# Altium schematic symbol library ICs-MCU.SchLib: 10 symbols
Pins are listed as number, name and electrical type; pins without a type are passive.

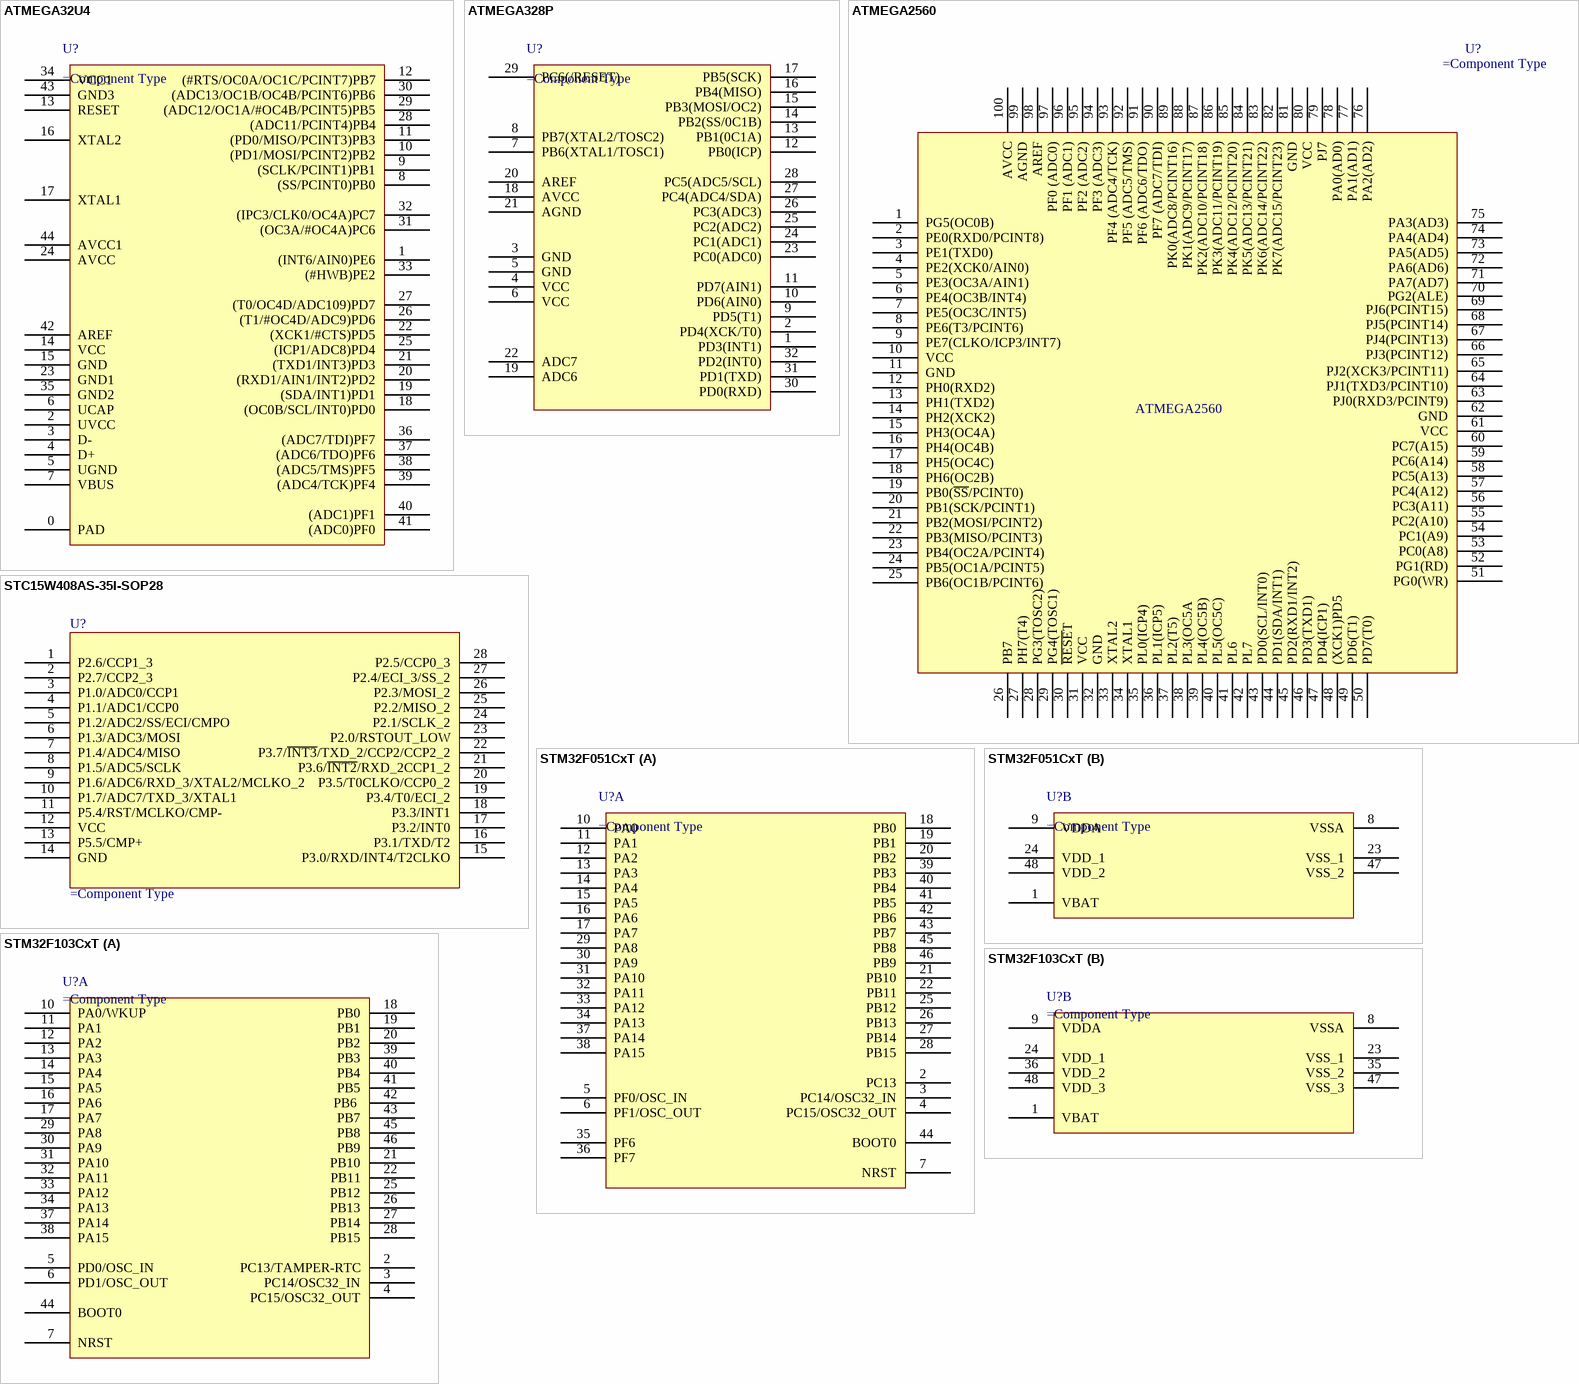
[diagram p0: symbols ATMEGA32U4 to STM32F103CxT]

## ATMEGA32U4
designator U?
footprint QFN-44_7x7x05P
pins: 0 PAD, 1 (INT6/AIN0)PE6, 2 UVCC, 3 D-, 4 D+, 5 UGND, 6 UCAP, 7 VBUS, 8 (SS/PCINT0)PB0, 9 (SCLK/PCINT1)PB1, 10 (PD1/MOSI/PCINT2)PB2, 11 (PD0/MISO/PCINT3)PB3, 12 (#RTS/OC0A/OC1C/PCINT7)PB7, 13 RESET, 14 VCC, 15 GND, 16 XTAL2, 17 XTAL1, 18 (OC0B/SCL/INT0)PD0, 19 (SDA/INT1)PD1, 20 (RXD1/AIN1/INT2)PD2, 21 (TXD1/INT3)PD3, 22 (XCK1/#CTS)PD5, 23 GND1, 24 AVCC, 25 (ICP1/ADC8)PD4, 26 (T1/#OC4D/ADC9)PD6, 27 (T0/OC4D/ADC109)PD7, 28 (ADC11/PCINT4)PB4, 29 (ADC12/OC1A/#OC4B/PCINT5)PB5, 30 (ADC13/OC1B/OC4B/PCINT6)PB6, 31 (OC3A/#OC4A)PC6, 32 (IPC3/CLK0/OC4A)PC7, 33 (#HWB)PE2, 34 VCC1, 35 GND2, 36 (ADC7/TDI)PF7, 37 (ADC6/TDO)PF6, 38 (ADC5/TMS)PF5, 39 (ADC4/TCK)PF4, 40 (ADC1)PF1, 41 (ADC0)PF0, 42 AREF, 43 GND3, 44 AVCC1

## ATMEGA328P
designator U?
footprint TQFP-32_7x7x08P
pins: 1 PD3(INT1), 2 PD4(XCK/T0), 3 GND, 4 VCC, 5 GND, 6 VCC, 7 PB6(XTAL1/TOSC1), 8 PB7(XTAL2/TOSC2), 9 PD5(T1), 10 PD6(AIN0), 11 PD7(AIN1), 12 PB0(ICP), 13 PB1(0C1A), 14 PB2(SS/0C1B), 15 PB3(MOSI/OC2), 16 PB4(MISO), 17 PB5(SCK), 18 AVCC, 19 ADC6, 20 AREF, 21 AGND, 22 ADC7, 23 PC0(ADC0), 24 PC1(ADC1), 25 PC2(ADC2), 26 PC3(ADC3), 27 PC4(ADC4/SDA), 28 PC5(ADC5/SCL), 29 PC6(/RESET), 30 PD0(RXD), 31 PD1(TXD), 32 PD2(INT0)

## ATMEGA2560
designator U?
pins: 1 PG5(OC0B), 2 PE0(RXD0/PCINT8), 3 PE1(TXD0), 4 PE2(XCK0/AIN0), 5 PE3(OC3A/AIN1), 6 PE4(OC3B/INT4), 7 PE5(OC3C/INT5), 8 PE6(T3/PCINT6), 9 PE7(CLKO/ICP3/INT7), 10 VCC (power), 11 GND (power), 12 PH0(RXD2), 13 PH1(TXD2), 14 PH2(XCK2), 15 PH3(OC4A), 16 PH4(OC4B), 17 PH5(OC4C), 18 PH6(OC2B), 19 PB0(~{SS}/PCINT0), 20 PB1(SCK/PCINT1), 21 PB2(MOSI/PCINT2), 22 PB3(MISO/PCINT3), 23 PB4(OC2A/PCINT4), 24 PB5(OC1A/PCINT5), 25 PB6(OC1B/PCINT6), 26 PB7, 27 PH7(T4), 28 PG3(TOSC2), 29 PG4(TOSC1), 30 ~{RESE}T, 31 VCC (power), 32 GND (power), 33 XTAL2, 34 XTAL1, 35 PL0(ICP4), 36 PL1(ICP5), 37 PL2(T5), 38 PL3(OC5A, 39 PL4(OC5B), 40 PL5(OC5C), 41 PL6, 42 PL7, 43 PD0(SCL/INT0), 44 PD1(SDA/INT1), 45 PD2(RXD1/INT2), 46 PD3(TXD1), 47 PD4(ICP1), 48 (XCK1)PD5, 49 PD6(T1), 50 PD7(T0), 51 PG0(WR), 52 PG1(RD), 53 PC0(A8), 54 PC1(A9), 55 PC2(A10), 56 PC3(A11), 57 PC4(A12), 58 PC5(A13), 59 PC6(A14), 60 PC7(A15), 61 VCC (power), 62 GND (power), 63 PJ0(RXD3/PCINT9), 64 PJ1(TXD3/PCINT10), 65 PJ2(XCK3/PCINT11), 66 PJ3(PCINT12), 67 PJ4(PCINT13), 68 PJ5(PCINT14), 69 PJ6(PCINT15), 70 PG2(ALE), 71 PA7(AD7), 72 PA6(AD6), 73 PA5(AD5), 74 PA4(AD4), 75 PA3(AD3), 76 PA2(AD2), 77 PA1(AD1), 78 PA0(AD0), 79 PJ7, 80 VCC (power), 81 GND (power), 82 PK7(ADC15/PCINT23), 83 PK6(ADC14/PCINT22), 84 PK5(ADC13/PCINT21), 85 PK4(ADC12/PCINT20), 86 PK3(ADC11/PCINT19), 87 PK2(ADC10/PCINT18), 88 PK1(ADC9/PCINT17), 89 PK0(ADC8/PCINT16), 90 PF7 (ADC7/TDI), 91 PF6 (ADC6/TDO), 92 PF5 (ADC5/TMS), 93 PF4 (ADC4/TCK), 94 PF3 (ADC3), 95 PF2 (ADC2), 96 PF1 (ADC1), 97 PF0 (ADC0), 98 AREF (power), 99 AGND (power), 100 AVCC (power)

## STC15W408AS-35I-SOP28
designator U?
footprint SOP-28_300mil
pins: 1 P2.6/CCP1_3, 2 P2.7/CCP2_3, 3 P1.0/ADC0/CCP1, 4 P1.1/ADC1/CCP0, 5 P1.2/ADC2/SS/ECI/CMPO, 6 P1.3/ADC3/MOSI, 7 P1.4/ADC4/MISO, 8 P1.5/ADC5/SCLK, 9 P1.6/ADC6/RXD_3/XTAL2/MCLKO_2, 10 P1.7/ADC7/TXD_3/XTAL1, 11 P5.4/RST/MCLKO/CMP-, 12 VCC (power), 13 P5.5/CMP+, 14 GND (power), 15 P3.0/RXD/INT4/T2CLKO, 16 P3.1/TXD/T2, 17 P3.2/INT0, 18 P3.3/INT1, 19 P3.4/T0/ECI_2, 20 P3.5/T0CLKO/CCP0_2, 21 P3.6/~{INT2}/RXD_2CCP1_2, 22 P3.7/~{INT3}/TXD_2/CCP2/CCP2_2, 23 P2.0/RSTOUT_LOW, 24 P2.1/SCLK_2, 25 P2.2/MISO_2, 26 P2.3/MOSI_2, 27 P2.4/ECI_3/SS_2, 28 P2.5/CCP0_3

## STM32F051CxT
designator U?
part A pins: 2 PC13, 3 PC14/OSC32_IN, 4 PC15/OSC32_OUT, 5 PF0/OSC_IN, 6 PF1/OSC_OUT, 7 NRST, 10 PA0, 11 PA1, 12 PA2, 13 PA3, 14 PA4, 15 PA5, 16 PA6, 17 PA7, 18 PB0, 19 PB1, 20 PB2, 21 PB10, 22 PB11, 25 PB12, 26 PB13, 27 PB14, 28 PB15, 29 PA8, 30 PA9, 31 PA10, 32 PA11, 33 PA12, 34 PA13, 35 PF6, 36 PF7, 37 PA14, 38 PA15, 39 PB3, 40 PB4, 41 PB5, 42 PB6, 43 PB7, 44 BOOT0, 45 PB8, 46 PB9
part B pins: 1 VBAT, 8 VSSA, 9 VDDA, 23 VSS_1, 24 VDD_1, 47 VSS_2, 48 VDD_2

## STM32F103CxT
designator U?
part A pins: 2 PC13/TAMPER-RTC, 3 PC14/OSC32_IN, 4 PC15/OSC32_OUT, 5 PD0/OSC_IN, 6 PD1/OSC_OUT, 7 NRST, 10 PA0/WKUP, 11 PA1, 12 PA2, 13 PA3, 14 PA4, 15 PA5, 16 PA6, 17 PA7, 18 PB0, 19 PB1, 20 PB2, 21 PB10, 22 PB11, 25 PB12, 26 PB13, 27 PB14, 28 PB15, 29 PA8, 30 PA9, 31 PA10, 32 PA11, 33 PA12, 34 PA13, 37 PA14, 38 PA15, 39 PB3, 40 PB4, 41 PB5, 42 PB6 , 43 PB7, 44 BOOT0, 45 PB8, 46 PB9
part B pins: 1 VBAT, 8 VSSA, 9 VDDA, 23 VSS_1, 24 VDD_1, 35 VSS_2, 36 VDD_2, 47 VSS_3, 48 VDD_3

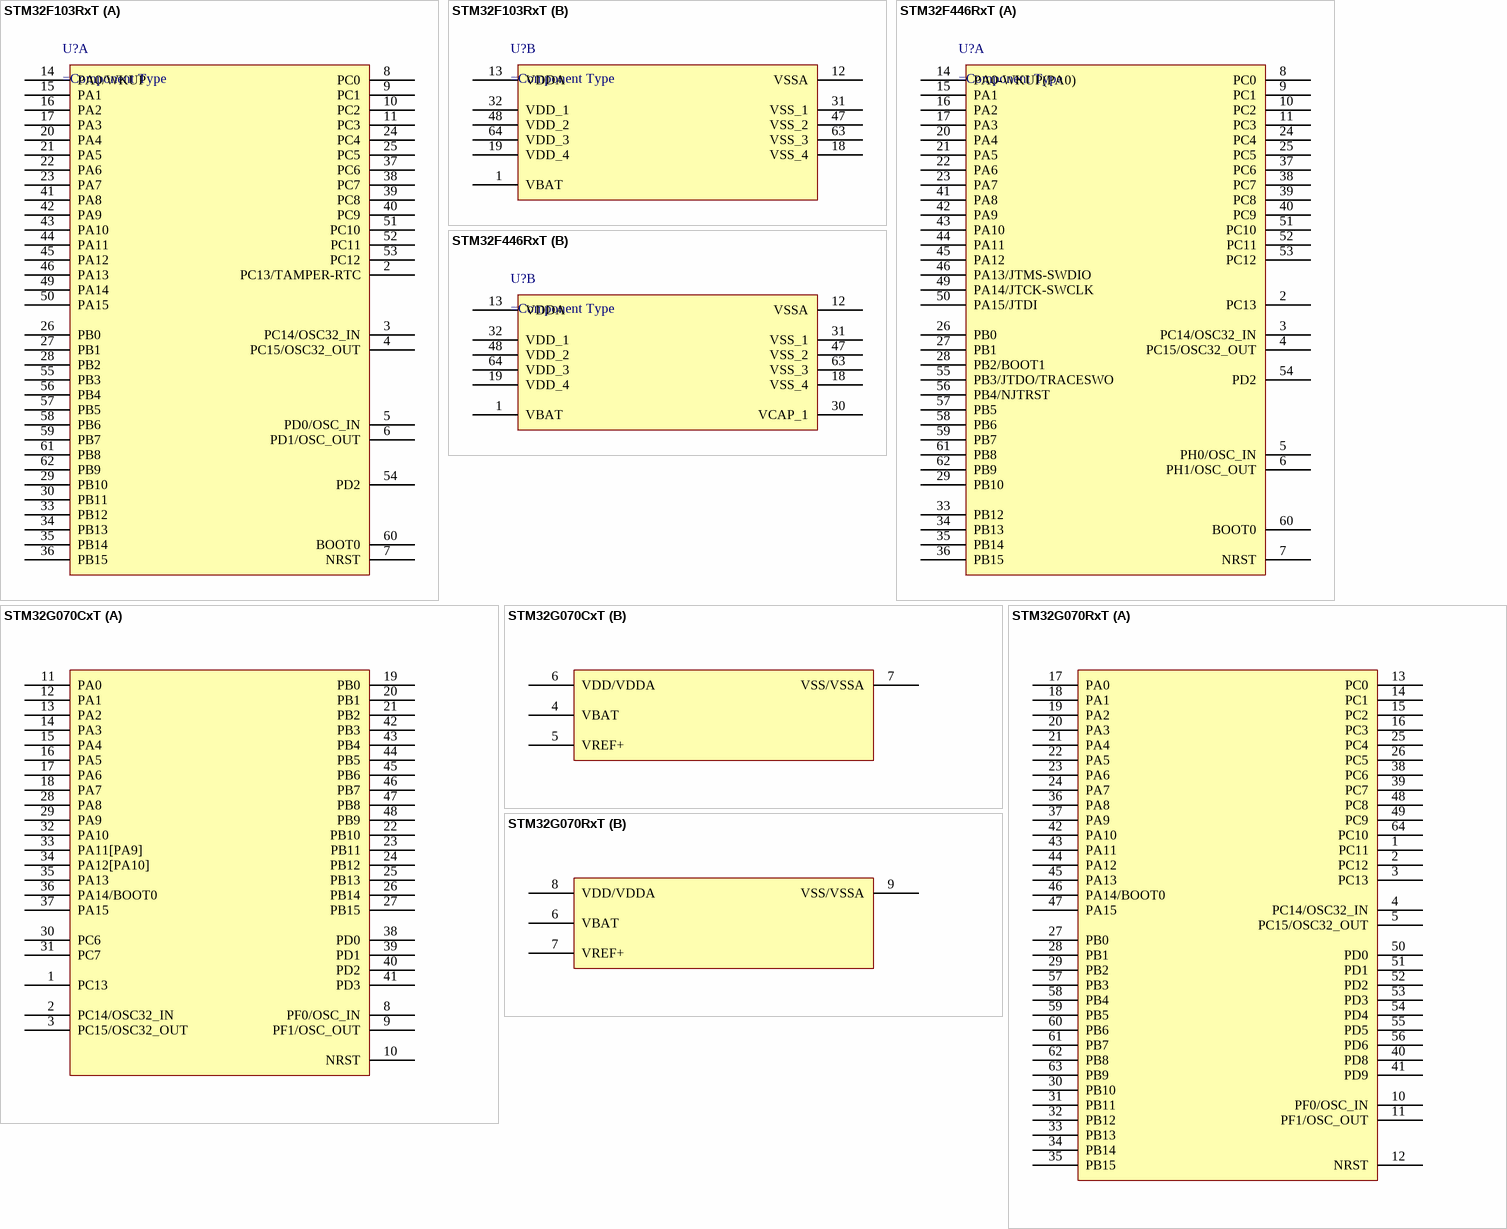
[diagram p1: symbols STM32F103RxT to STM32G070RxT]

## STM32F103RxT
designator U?
part A pins: 2 PC13/TAMPER-RTC, 3 PC14/OSC32_IN, 4 PC15/OSC32_OUT, 5 PD0/OSC_IN, 6 PD1/OSC_OUT, 7 NRST, 8 PC0, 9 PC1, 10 PC2, 11 PC3, 14 PA0/WKUP, 15 PA1, 16 PA2, 17 PA3, 20 PA4, 21 PA5, 22 PA6, 23 PA7, 24 PC4, 25 PC5, 26 PB0, 27 PB1, 28 PB2, 29 PB10, 30 PB11, 33 PB12, 34 PB13, 35 PB14, 36 PB15, 37 PC6, 38 PC7, 39 PC8, 40 PC9, 41 PA8, 42 PA9, 43 PA10, 44 PA11, 45 PA12, 46 PA13, 49 PA14, 50 PA15, 51 PC10, 52 PC11, 53 PC12, 54 PD2, 55 PB3, 56 PB4, 57 PB5, 58 PB6, 59 PB7, 60 BOOT0, 61 PB8, 62 PB9
part B pins: 1 VBAT, 12 VSSA, 13 VDDA, 18 VSS_4, 19 VDD_4, 31 VSS_1, 32 VDD_1, 47 VSS_2, 48 VDD_2, 63 VSS_3, 64 VDD_3

## STM32F446RxT
designator U?
part A pins: 2 PC13, 3 PC14/OSC32_IN, 4 PC15/OSC32_OUT, 5 PH0/OSC_IN, 6 PH1/OSC_OUT, 7 NRST, 8 PC0, 9 PC1, 10 PC2, 11 PC3, 14 PA0-WKUP(PA0), 15 PA1, 16 PA2, 17 PA3, 20 PA4, 21 PA5, 22 PA6, 23 PA7, 24 PC4, 25 PC5, 26 PB0, 27 PB1, 28 PB2/BOOT1, 29 PB10, 33 PB12, 34 PB13, 35 PB14, 36 PB15, 37 PC6, 38 PC7, 39 PC8, 40 PC9, 41 PA8, 42 PA9, 43 PA10, 44 PA11, 45 PA12, 46 PA13/JTMS-SWDIO, 49 PA14/JTCK-SWCLK, 50 PA15/JTDI, 51 PC10, 52 PC11, 53 PC12, 54 PD2, 55 PB3/JTDO/TRACESWO, 56 PB4/NJTRST, 57 PB5, 58 PB6, 59 PB7, 60 BOOT0, 61 PB8, 62 PB9
part B pins: 1 VBAT, 12 VSSA, 13 VDDA, 18 VSS_4, 19 VDD_4, 30 VCAP_1, 31 VSS_1, 32 VDD_1, 47 VSS_2, 48 VDD_2, 63 VSS_3, 64 VDD_3

## STM32G070CxT
designator U?
footprint LQFP-64_10x10x05P
part A pins: 1 PC13, 2 PC14/OSC32_IN, 3 PC15/OSC32_OUT, 8 PF0/OSC_IN, 9 PF1/OSC_OUT, 10 NRST, 11 PA0, 12 PA1, 13 PA2, 14 PA3, 15 PA4, 16 PA5, 17 PA6, 18 PA7, 19 PB0, 20 PB1, 21 PB2, 22 PB10, 23 PB11, 24 PB12, 25 PB13, 26 PB14, 27 PB15, 28 PA8, 29 PA9, 30 PC6, 31 PC7, 32 PA10, 33 PA11[PA9], 34 PA12[PA10], 35 PA13, 36 PA14/BOOT0, 37 PA15, 38 PD0, 39 PD1, 40 PD2, 41 PD3, 42 PB3, 43 PB4, 44 PB5, 45 PB6, 46 PB7, 47 PB8, 48 PB9
part B pins: 4 VBAT, 5 VREF+, 6 VDD/VDDA, 7 VSS/VSSA

## STM32G070RxT
designator U?
footprint LQFP-64_10x10x05P
part A pins: 1 PC11, 2 PC12, 3 PC13, 4 PC14/OSC32_IN, 5 PC15/OSC32_OUT, 10 PF0/OSC_IN, 11 PF1/OSC_OUT, 12 NRST, 13 PC0, 14 PC1, 15 PC2, 16 PC3, 17 PA0, 18 PA1, 19 PA2, 20 PA3, 21 PA4, 22 PA5, 23 PA6, 24 PA7, 25 PC4, 26 PC5, 27 PB0, 28 PB1, 29 PB2, 30 PB10, 31 PB11, 32 PB12, 33 PB13, 34 PB14, 35 PB15, 36 PA8, 37 PA9, 38 PC6, 39 PC7, 40 PD8, 41 PD9, 42 PA10, 43 PA11, 44 PA12, 45 PA13, 46 PA14/BOOT0, 47 PA15, 48 PC8, 49 PC9, 50 PD0, 51 PD1, 52 PD2, 53 PD3, 54 PD4, 55 PD5, 56 PD6, 57 PB3, 58 PB4, 59 PB5, 60 PB6, 61 PB7, 62 PB8, 63 PB9, 64 PC10
part B pins: 6 VBAT, 7 VREF+, 8 VDD/VDDA, 9 VSS/VSSA